# Altium footprint library CAP AL TH D10 L5 H30.PCBLIB: 1 footprints
Each footprint in its own frame and in the unit in brackets; x right, y up, seen from the top. Pads: shape width x height; smd on the part's side, far side on the other; paste and mask are expansions set on the pad; w line width, h text height; cw(c..) or ccw(c..) is an arc to the next point about the centre after c.
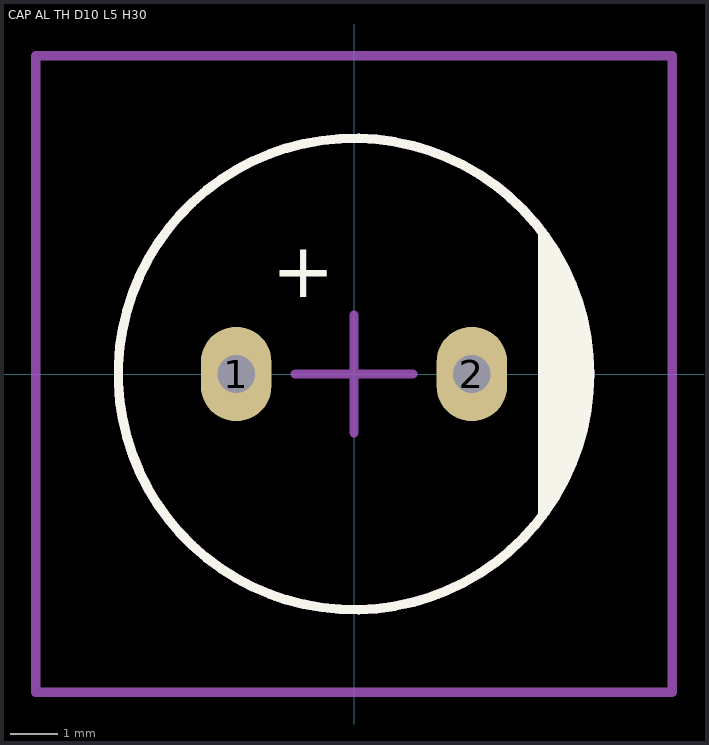
[diagram p0: the footprint, top view; thin cyan lines are the x and y axes]

## CAP AL TH D10 L5 H30 [mm] "10MM Diameter, 5MM Lead Spacing Aluminium Capacitor"
height 30
pads (2):
  oval 1.5x2 hole 0.8: 1(-2.5,0) 2(2.5,0)
Top Overlay:
  circle w0.2: c0,0 r5
  region: 4,3 4.5,2.25 5,0.75 5,-0.75 4.75,-1.5 4.25,-2.75 4,-3
  lines w0.2: 4,-3 4,3
  text "+" at -1.75,1.25 h2
Mechanical 13:
  circle w0.2: c0,0 r5
  lines w0.2: 4,-3 4,3
Mechanical 15:
  lines w0.2: -1.25,0 1.25,0 ; 0,-1.25 0,1.25 ; -6.75,-6.75 0,-6.75 6.75,-6.75 6.75,0 6.75,6.75 0,6.75 -6.75,6.75 -6.75,0 -6.75,-6.75
3D body "CAP ALTH D-10MM L-5.0MM H-30MM.STEP": height 30.2, standoff -3, extent -5,-4.991 5,4.992